# Altium schematic symbol library Molex FFC - FPC Connectors (Through-Hole).SchLib: 219 symbols (part 7 of 7)
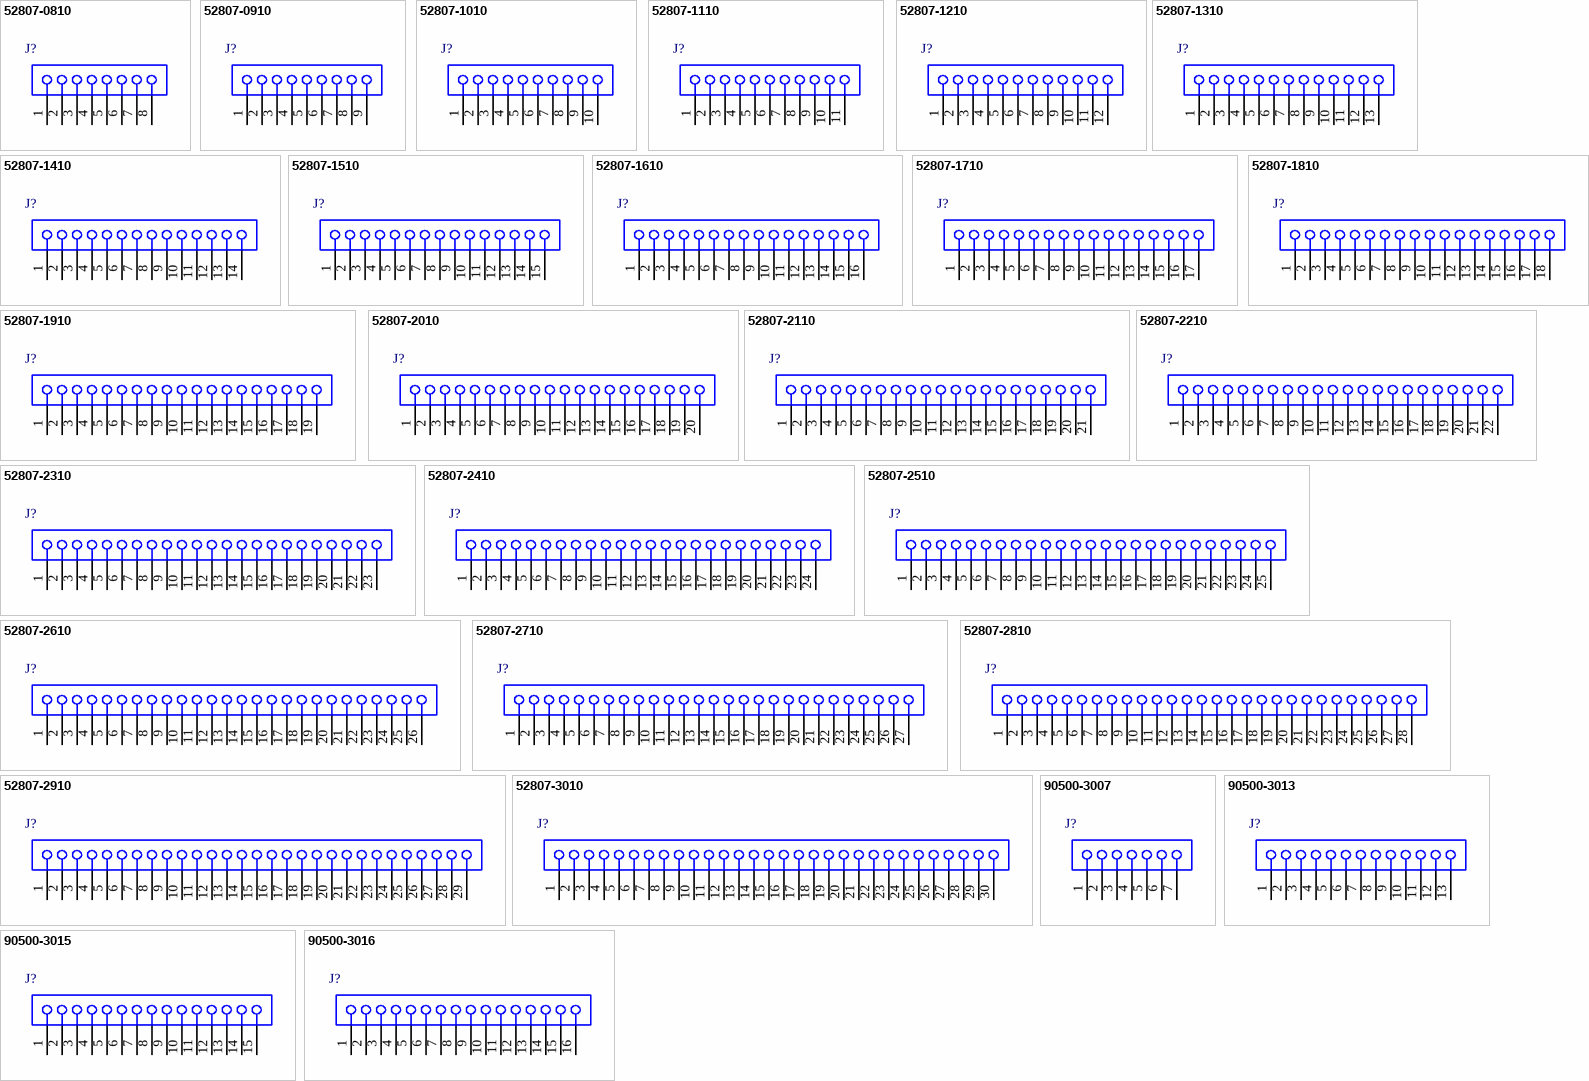
[diagram p11: symbols 52807-0810 to 90500-3016]

## 90500-3013
designator J?
2.54 mm Pitch FFC Connector, 8.8 mm Mated Height, Vertical, ZIF, Through Hole, 13 Circuits, -40 to 85 degC, ELV and RoHS Compliant, Tube; Manufacturer: Molex; PartNumber: 90500-3013; Circuits (Loaded): 13; Current (Max per Contact): 0.5A, 1A; Durability (mating cycles max): 50; Mated Height: 8.80mm; Material - Metal: Phosphor Bronze; Material - Plating Mating: Tin; PCB Retention: None; Pitch - Mating Interface: 2.54mm; Polarized to PCB: No; Voltage (Max): 250V; PackageVersion: Rev. B1, 05/2005; PackageReference: 90500-3013; PackageDescription: 13-Lead FFC Connector, Pitch 2.54 mm; Contact Position: N/A; Entry Angle: Vertical; Material - Plating Termination: Tin; Number of Rows: 1; Orientation: Vertical; Packing: Tube; Pitch - Termination Interface: 2.54mm; RoHS: TRUE; Stackable: No; Mounting Technology: Through Hole; ComponentLink1Description: Manufacturer URL; ComponentLink1URL: http://www.molex.com/molex/index.jsp; ComponentLink2Description: Datasheet; ComponentLink2URL: http://www.molex.com/webdocs/datasheets/pdf/en-us/0905003013_FFC_FPC_CONNECTORS.pdf; ComponentLink3Description: Package Specification; ComponentLink3URL: http://www.molex.com/pdm_docs/sd/905003013_sd.pdf
footprint MOLX-90500-3013 (FFC Connector, 13-Leads, Vertical, Pitch 2.54 mm, Mated Height 8.8 mm, Through Hole)
pins: 1, 2, 3, 4, 5, 6, 7, 8, 9, 10, 11, 12, 13

## 90500-3015
designator J?
2.54 mm Pitch FFC Connector, 8.8 mm Mated Height, Vertical, ZIF, Through Hole, 15 Circuits, -40 to 85 degC, ELV and RoHS Compliant, Tube; Manufacturer: Molex; PartNumber: 90500-3015; Circuits (Loaded): 15; Current (Max per Contact): 0.5A, 1A; Durability (mating cycles max): 50; Mated Height: 8.80mm; Material - Metal: Phosphor Bronze; Material - Plating Mating: Tin; PCB Retention: None; Pitch - Mating Interface: 2.54mm; Polarized to PCB: No; Voltage (Max): 250V; PackageVersion: Rev. B1, 05/2005; PackageReference: 90500-3015; PackageDescription: 15-Lead FFC Connector, Pitch 2.54 mm; Contact Position: N/A; Entry Angle: Vertical; Material - Plating Termination: Tin; Number of Rows: 1; Orientation: Vertical; Packing: Tube; Pitch - Termination Interface: 2.54mm; RoHS: TRUE; Stackable: No; Mounting Technology: Through Hole; ComponentLink1Description: Manufacturer URL; ComponentLink1URL: http://www.molex.com/molex/index.jsp; ComponentLink2Description: Datasheet; ComponentLink2URL: http://www.molex.com/webdocs/datasheets/pdf/en-us/0905003015_FFC_FPC_CONNECTORS.pdf; ComponentLink3Description: Package Specification; ComponentLink3URL: http://www.molex.com/pdm_docs/sd/905003015_sd.pdf
footprint MOLX-90500-3015 (FFC Connector, 15-Leads, Vertical, Pitch 2.54 mm, Mated Height 8.8 mm, Through Hole)
pins: 1, 2, 3, 4, 5, 6, 7, 8, 9, 10, 11, 12, 13, 14, 15

## 90500-3016
designator J?
2.54 mm Pitch FFC Connector, 8.8 mm Mated Height, Vertical, ZIF, Through Hole, 16 Circuits, -40 to 85 degC, ELV and RoHS Compliant, Tube; Manufacturer: Molex; PartNumber: 90500-3016; Circuits (Loaded): 16; Current (Max per Contact): 0.5A, 1A; Durability (mating cycles max): 50; Mated Height: 8.80mm; Material - Metal: Phosphor Bronze; Material - Plating Mating: Tin; PCB Retention: None; Pitch - Mating Interface: 2.54mm; Polarized to PCB: No; Voltage (Max): 250V; PackageVersion: Rev. B1, 05/2005; PackageReference: 90500-3016; PackageDescription: 16-Lead FFC Connector, Pitch 2.54 mm; Contact Position: N/A; Entry Angle: Vertical; Material - Plating Termination: Tin; Number of Rows: 1; Orientation: Vertical; Packing: Tube; Pitch - Termination Interface: 2.54mm; RoHS: TRUE; Stackable: No; Mounting Technology: Through Hole; ComponentLink1Description: Manufacturer URL; ComponentLink1URL: http://www.molex.com/molex/index.jsp; ComponentLink2Description: Datasheet; ComponentLink2URL: http://www.molex.com/webdocs/datasheets/pdf/en-us/0905003016_FFC_FPC_CONNECTORS.pdf; ComponentLink3Description: Package Specification; ComponentLink3URL: http://www.molex.com/pdm_docs/sd/905003016_sd.pdf
footprint MOLX-90500-3016 (FFC Connector, 16-Leads, Vertical, Pitch 2.54 mm, Mated Height 8.8 mm, Through Hole)
pins: 1, 2, 3, 4, 5, 6, 7, 8, 9, 10, 11, 12, 13, 14, 15, 16